# Altium schematic symbol library 67997-402HLF.SchLib: 1 symbol
Pins are listed as number, name and electrical type; pins without a type are passive.

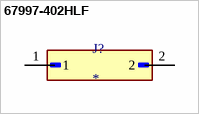
[diagram p0: symbol 67997-402HLF]

## 67997-402HLF
designator J?
MF: {'manufacturer': u'Amphenol ICC (FCI)'}; MP: 67997-402HLF; Package: None; Price: None; Value: *; Availability: Unavailable
footprint AMPHENOL_67997-402HLF
pins: 1, 2